# Altium footprint library 51最小系统板.PcbLib: 22 footprints (part 2 of 2)
Each footprint in its own frame and in the unit in brackets; x right, y up, seen from the top. Pads: shape width x height; smd on the part's side, far side on the other; paste and mask are expansions set on the pad; w line width, h text height; cw(c..) or ccw(c..) is an arc to the next point about the centre after c.
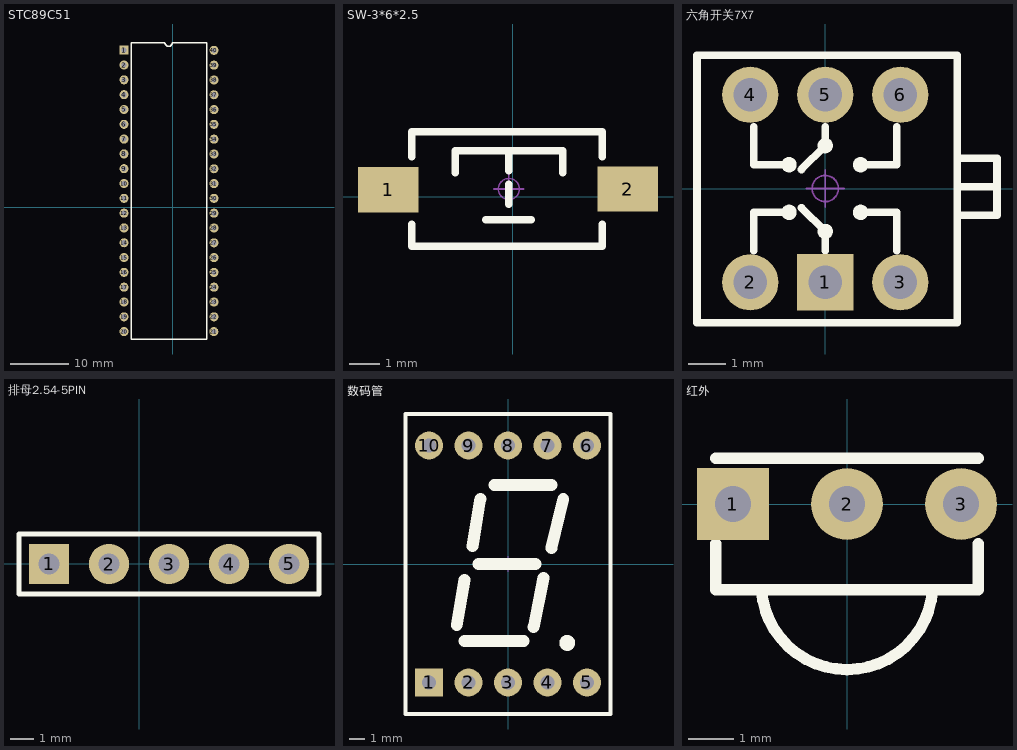
[diagram p1: the footprints below, top view; thin cyan lines are the x and y axes]

## STC89C51 [mil]
pads (40):
  rect 61x61 hole 35: 1(-328.88,1060.19)
  round 61 hole 35: 2(-328.62,960.17) 3(-328.62,860.15) 4(-328.62,760.13) 5(-328.62,660.11) 6(-328.62,560.09) 7(-328.62,460.07) 8(-328.62,360.05) 9(-328.62,260.03) 10(-328.62,160.01) 11(-328.62,59.99) 12(-328.62,-40.03) 13(-328.62,-140.05) 14(-328.62,-240.07) 15(-328.62,-340.09) 16(-328.62,-440.11) 17(-328.62,-540.13) 18(-328.62,-640.15) 19(-328.62,-740.17) 20(-328.62,-840.19) 21(278.04,-840.19) 22(278.88,-740.21) 23(278.88,-640.23) 24(278.88,-540.25) 25(278.88,-440.28) 26(278.88,-340.3) 27(278.88,-240.32) 28(278.88,-140.34) 29(278.88,-40.36) 30(278.88,59.61) 31(278.88,159.59) 32(278.88,259.57) 33(278.88,359.55) 34(278.88,459.53) 35(278.88,559.5) 36(278.88,659.48) 37(278.88,759.46) 38(278.88,859.44) 39(278.88,959.42) 40(278.88,1059.39)
Top Overlay:
  lines w10: -279.04,-890.19 -279.04,1111.06 -53.21,1111.06 ccw(c-28.21,1111.06) -3.21,1111.06 228.88,1111.06 228.88,-890.19 -279.04,-890.19
3D body "ZIF40-2.STEP": height 188.98, standoff -137.8, extent -372.92,-883.03 320,1113.03

## SW-3*6*2.5 [mm]
pads (2):
  rect 2x1.5 smd: 1(-4.123,0.234) 2(3.81,0.254)
Top Overlay:
  lines w0.254: -3.339,-0.914 -3.339,-1.646 2.961,-1.646 2.961,-0.914 ; -3.339,1.321 -3.339,2.154 2.961,2.154 2.961,1.321 ; -1.905,0.787 -1.905,1.524 1.651,1.524 1.651,0.787 ; -0.889,-0.762 0.61,-0.762 ; -0.127,-0.254 -0.127,0.406 ; -0.127,0.864 -0.127,1.524
Mechanical 15:
  circle w0.05: c-0.127,0.254 r0.35
  lines w0.05: -0.627,0.254 0.373,0.254 ; -0.127,-0.246 -0.127,0.754
3D body "TSW SMD-3x6x5.STEP": height 5.1, standoff -0.03, extent -4.727,-1.496 4.473,2.004

## 六角开关7X7 [mm]
pads (6):
  rect 1.5x1.5 hole 0.9: 1(0,-2.5)
  round 1.5 hole 0.9: 2(-2,-2.5) 3(2,-2.5) 4(-2,2.5) 5(0,2.5) 6(2,2.5)
Top Overlay:
  circle w0.254: c0.94,-0.635 r0.076
  circle w0.254: c-0.965,-0.635 r0.076
  circle w0.254: c0,-1.143 r0.076
  circle w0.254: c0,1.143 r0.076
  circle w0.254: c-0.965,0.635 r0.076
  circle w0.254: c0.94,0.635 r0.076
  lines w0.203: -1.905,-1.651 -1.905,-0.635 -0.889,-0.635 ; -1.905,1.651 -1.905,0.635 -0.889,0.635 ; -0.635,-0.508 0,-1.143 0,-1.651 ; -0.635,0.508 0,1.143 0,1.651 ; 1.016,-0.635 1.905,-0.635 1.905,-1.651 ; 1.016,0.635 1.905,0.635 1.905,1.651 ; 3.514,0.05 4.579,0.05 ; 3.563,-0.712 4.579,-0.712 4.579,0.812 3.563,0.812 ; -3.42,-3.581 3.514,-3.581 3.514,2.54 3.514,3.556 -3.42,3.556 -3.42,-3.581
Mechanical 15:
  circle w0.05: c0,0 r0.35
  lines w0.05: -0.5,0 0.5,0 ; 0,-0.5 0,0.5
3D body "SLSW 7x7.STEP": height 11.2, standoff -3.2, extent -3.5,-3.5 3.5,3.5

## 排母2.54-5PIN [mm]
pads (5):
  rect 1.7x1.7 hole 0.9: 1(-3.81,0)
  round 1.7 hole 0.9: 2(-1.27,0) 3(1.27,0) 4(3.81,0) 5(6.35,0)
Top Overlay:
  lines w0.2: -5.08,-1.27 -5.08,1.27 7.62,1.27 7.62,-1.27 -5.08,-1.27
3D body "HDR2.54-1P_M.STEP": height 8.5, standoff -3, extent -2.54,-1.27 0,1.27
3D body "HDR2.54-1P_M.STEP": height 8.5, standoff -3, extent -5.08,-1.27 -2.54,1.27
3D body "HDR2.54-1P_M.STEP": height 8.5, standoff -3, extent 2.54,-1.27 5.08,1.27
3D body "HDR2.54-1P_M.STEP": height 8.5, standoff -3, extent 0,-1.27 2.54,1.27
3D body "HDR2.54-1P_M.STEP": height 8.5, standoff -3, extent 5.08,-1.27 7.62,1.27

## 数码管 [mm]
pads (10):
  rect 1.8x1.8 hole 0.9: 1(-5.08,-7.62)
  round 1.8 hole 0.9: 2(-2.54,-7.62) 3(0,-7.62) 4(2.54,-7.62) 5(5.08,-7.62) 6(5.08,7.62) 7(2.54,7.62) 8(0,7.62) 9(-2.54,7.62) 10(-5.08,7.62)
Top Overlay:
  circle w0.508: c3.81,-5.08 r0.254
  lines w0.254: -6.604,-9.652 6.604,-9.652 6.604,9.652 -6.604,9.652 -6.604,-9.652
  lines w0.762: -3.302,-3.937 -2.794,-1.016 ; -2.794,-4.953 1.016,-4.953 ; -2.286,1.143 -1.778,4.191 ; -1.905,0 1.778,0 ; -0.889,5.08 2.794,5.08 ; 1.651,-4.064 2.286,-0.889 ; 2.794,1.016 3.556,4.191
Mechanical 15:
  circle w0.05: c0,0 r0.35
  lines w0.05: -0.5,0 0.5,0 ; 0,-0.5 0,0.5
3D body "SMG 0.5-1P.STEP": height 8, standoff -3.6, extent -6.35,-9.5 6.35,9.5

## 红外 [mm]
pads (3):
  rect 1.6x1.6 hole 0.8: 1(-2.54,0)
  round 1.6 hole 0.8: 2(0,0) 3(2.54,0)
Top Overlay:
  lines w0.254: -2.921,-0.889 -2.921,-1.905 2.921,-1.905 2.921,-0.889 ; -2.921,1.016 2.921,1.016 ; -1.905,-1.905 ccw(c0,-1.778) 1.905,-1.905
3D body "VS1838B-A.STEP": height 8.3, standoff -3.5, extent -2.84,-3.6 2.84,0.8